# Altium schematic symbol library BMS_Master.SchLib: 35 symbols
Pins are listed as number, name and electrical type; pins without a type are passive.

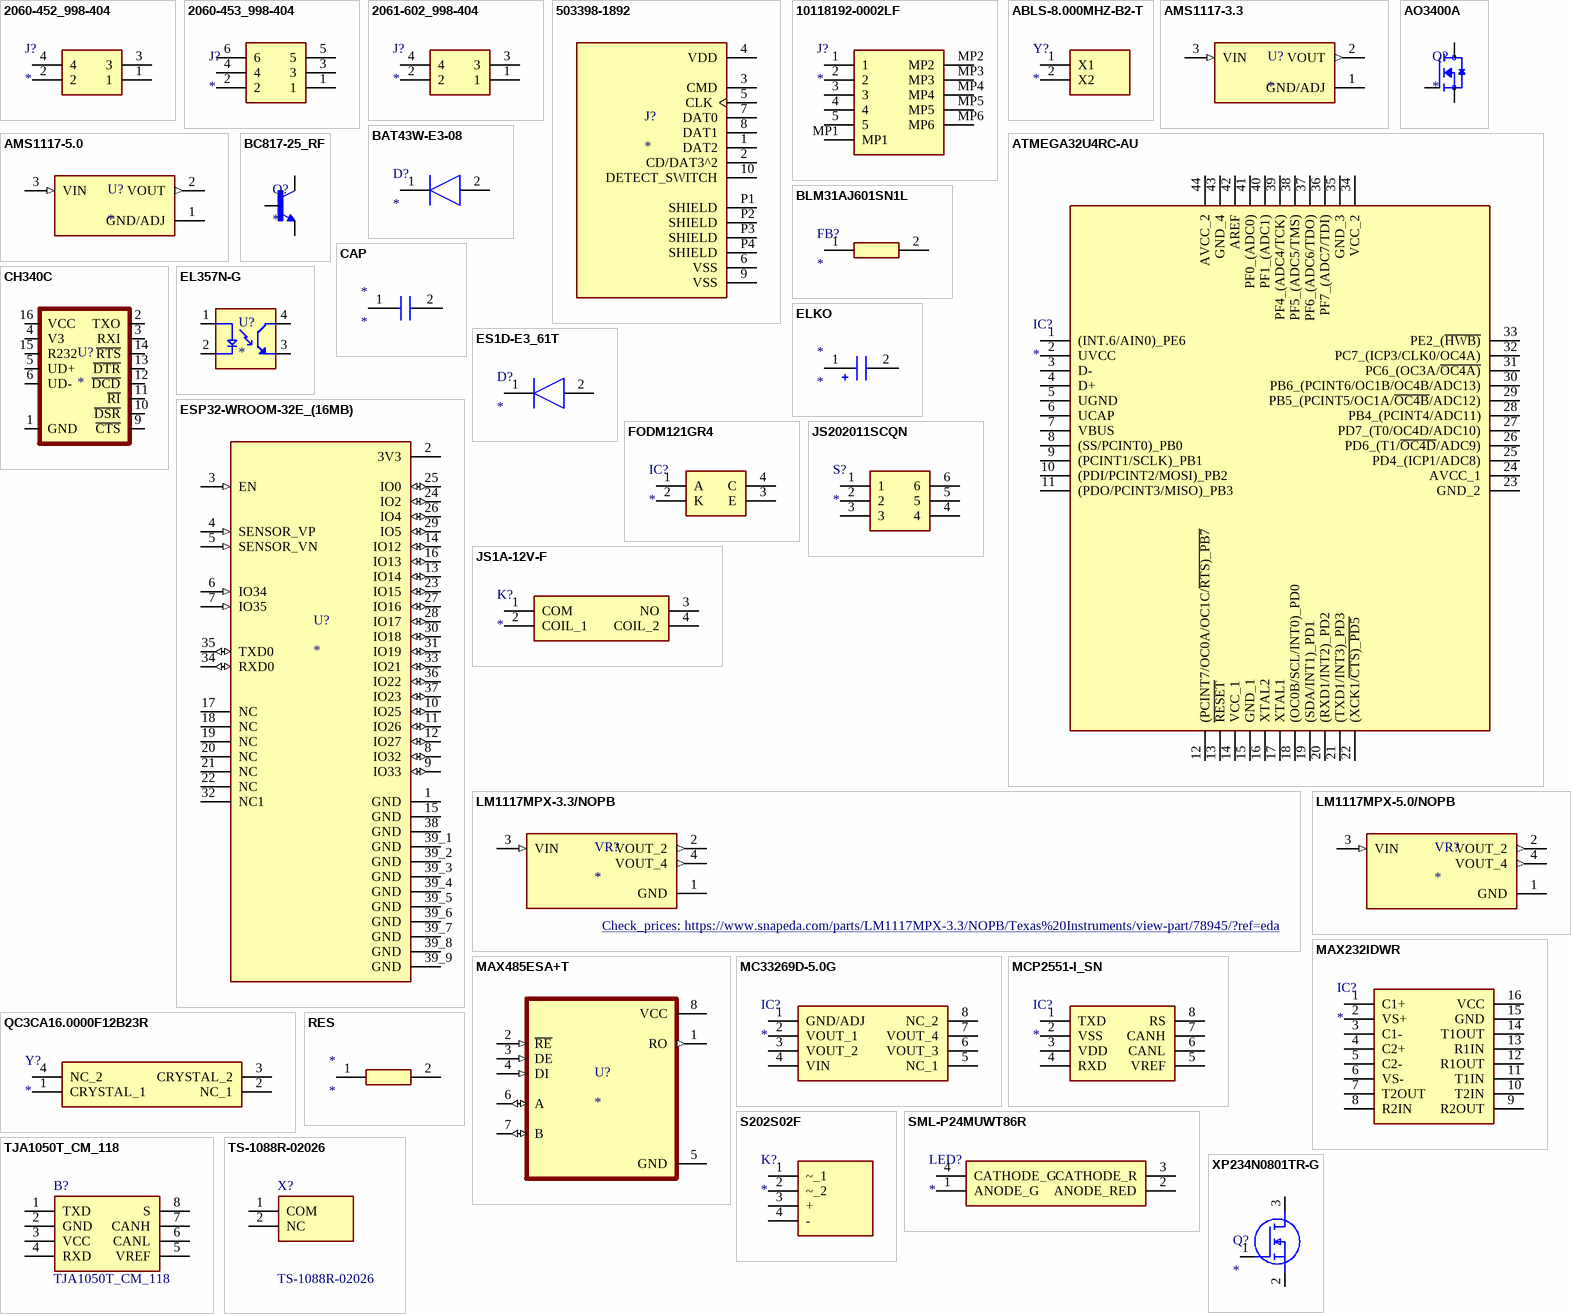
[diagram p0: symbols 2060-452_998-404 to XP234N0801TR-G]

## 2060-452_998-404
designator J?
Connector; Manufacturer_Name: Wago; Manufacturer_Part_Number: 2061-602/998-404; Arrow Part Number: 2060-452/998-404; Arrow Price/Stock: https://www.arrow.com/en/products/2060-452998-404/wago-kontakttechnik-gmbh?region=nac
footprint 2060-452998-404
pins: 1, 2, 3, 4

## 2060-453_998-404
designator J?
Connector; Manufacturer_Name: Wago; Manufacturer_Part_Number: 2060-452/998-404; Arrow Part Number: 2060-452/998-404; Arrow Price/Stock: https://www.arrow.com/en/products/2060-452998-404/wago-kontakttechnik-gmbh?region=nac
footprint 2060-453998-404
pins: 1, 2, 3, 4, 5, 6

## 2061-602_998-404
designator J?
Connector; Manufacturer_Name: Wago; Manufacturer_Part_Number: 2060-452/998-404; Arrow Part Number: 2060-452/998-404; Arrow Price/Stock: https://www.arrow.com/en/products/2060-452998-404/wago-kontakttechnik-gmbh?region=nac
footprint 2061-602998-404
pins: 1, 2, 3, 4

## 503398-1892
designator J?
9 (8 + 1) Position Card Connector Secure Digital - microSDâ„¢ Surface Mount, Right Angle Gold; MP: 5033981892; MF: Molex; Check_prices: https://www.snapeda.com/parts/5033981892/Molex/view-part/?ref=eda; Value: *; Availability: In Stock; Price: None; Package: None; SnapEDA_Link: https://www.snapeda.com/parts/5033981892/Molex/view-part/?ref=snap; Purchase-URL: https://pricing.snapeda.com/search/part/5033981892/?ref=eda
footprint MOLEX_503398-1892
pins: 1 DAT2, 2 CD/DAT3^2, 3 CMD, 4 VDD (power), 5 CLK, 6 VSS (power), 7 DAT0, 8 DAT1, 9 VSS (power), 10 DETECT_SWITCH, P1 SHIELD, P2 SHIELD, P3 SHIELD, P4 SHIELD

## 10118192-0002LF
designator J?
Connector; Manufacturer_Name: Amphenol; Manufacturer_Part_Number: 10118192-0002LF; Datasheet Link: https://componentsearchengine.com/Datasheets/1/10118192-0002LF.pdf; Height: 3.05mm; Mouser Part Number: 649-10118192-0002LF; Mouser Price/Stock: https://www.mouser.co.uk/ProductDetail/Amphenol-FCI/10118192-0002LF?qs=KVgMXE4aH4nIkuWlMxQzog%3D%3D; Arrow Part Number: 10118192-0002LF; Arrow Price/Stock: https://www.arrow.com/en/products/10118192-0002lf/amphenol-fci?region=nac
footprint 101181920002LF
pins: 1, 2, 3, 4, 5, MP1, MP2, MP3, MP4, MP5, MP6

## ABLS-8.000MHZ-B2-T
designator Y?
Crystal or Oscillator; Manufacturer_Name: ABRACON; Manufacturer_Part_Number: ABLS-8.000MHZ-B2-T; Datasheet Link: http://www.abracon.com/Resonators/abls.pdf; Height: 4.2mm; Mouser Part Number: 815-ABLS-8-B2; Mouser Price/Stock: https://www.mouser.co.uk/ProductDetail/ABRACON/ABLS-8000MHZ-B2-T?qs=H8AWquzS%2FlOPBpG0T30dWA%3D%3D; Arrow Part Number: ABLS-8.000MHZ-B2-T; Arrow Price/Stock: https://www.arrow.com/en/products/abls-8.000mhz-b2-t/abracon?region=nac
footprint ABLS8000MHZB2T
pins: 1 X1, 2 X2

## AMS1117-3.3
designator U?
Sot223/Pkg 1-Amp 3.3-Volt Low Drop Out Voltage Regulatator; MF: Advanced Monolithic Systems; MP: AMS1117-3.3; Package: SOT-223 Seeed Technology; Value: *; Check_prices: https://www.snapeda.com/parts/AMS1117-3.3/Advanced+Monolithic+Systems/view-part/?ref=eda; Price: None; Availability: Not in stock; SnapEDA_Link: https://www.snapeda.com/parts/AMS1117-3.3/Advanced+Monolithic+Systems/view-part/?ref=snap
footprint SOT229P700X180-4N
pins: 1 GND/ADJ (power), 2 VOUT (out), 3 VIN (in)

## AMS1117-5.0
designator U?
1A LOW DROPOUT VOLTAGE REGULATOR; MP: AMS1117-5.0; MF: ams; Package: SOT-223 Seeed Technology; SnapEDA_Link: https://www.snapeda.com/parts/AMS1117-5.0/ams/view-part/?ref=snap; Check_prices: https://www.snapeda.com/parts/AMS1117-5.0/ams/view-part/?ref=eda; Availability: Not in stock; Value: *; Price: None
footprint SOT229P700X180-4N
pins: 1 GND/ADJ (power), 2 VOUT (out), 3 VIN (in)

## AO3400A
designator Q?
Trans MOSFET N-CH 30V 5.7A 3-Pin SOT-23; MP: AO3400A; Package: None; Price: None; Availability: Unavailable; Value: *
footprint SOT95P280X125-3N
pins: 1 G, 2 S, 3 D

## ATMEGA32U4RC-AU
designator IC?
Integrated Circuit; Manufacturer_Name: Microchip; Manufacturer_Part_Number: ATMEGA32U4RC-AU; Datasheet Link: http://uk.rs-online.com/web/p/products/7380451; Height: 1.2mm; Mouser Part Number: 556-ATMEGA32U4RC-AU; Mouser Price/Stock: https://www.mouser.co.uk/ProductDetail/Microchip-Technology-Atmel/ATMEGA32U4RC-AU?qs=7AReRZHh%2FSt%252BRqfzkW8%2FkA%3D%3D; Arrow Part Number: ATMEGA32U4RC-AU; Arrow Price/Stock: https://www.arrow.com/en/products/atmega32u4rc-au/microchip-technology?region=nac
footprint QFP80P1200X1200X120-44N
pins: 1 (INT.6/AIN0)_PE6, 2 UVCC, 3 D-, 4 D+, 5 UGND, 6 UCAP, 7 VBUS, 8 (SS/PCINT0)_PB0, 9 (PCINT1/SCLK)_PB1, 10 (PDI/PCINT2/MOSI)_PB2, 11 (PDO/PCINT3/MISO)_PB3, 12 (PCINT7/OC0A/OC1C/~{RTS)_PB7}, 13 ~{RESET}, 14 VCC_1, 15 GND_1, 16 XTAL2, 17 XTAL1, 18 (OC0B/SCL/INT0)_PD0, 19 (SDA/INT1)_PD1, 20 (RXD1/INT2)_PD2, 21 (TXD1/INT3)_PD3, 22 (XCK1/~{CTS)_PD5}, 23 GND_2, 24 AVCC_1, 25 PD4_(ICP1/ADC8), 26 PD6_(T1/~{OC4D}/ADC9), 27 PD7_(T0/OC4D/ADC10), 28 PB4_(PCINT4/ADC11), 29 PB5_(PCINT5/OC1A/~{OC4B}/ADC12), 30 PB6_(PCINT6/OC1B/OC4B/ADC13), 31 PC6_(OC3A/~{OC4A)}, 32 PC7_(ICP3/CLK0/OC4A), 33 PE2_(~{HWB)}, 34 VCC_2, 35 GND_3, 36 PF7_(ADC7/TDI), 37 PF6_(ADC6/TDO), 38 PF5_(ADC5/TMS), 39 PF4_(ADC4/TCK), 40 PF1_(ADC1), 41 PF0_(ADC0), 42 AREF, 43 GND_4, 44 AVCC_2

## BAT43W-E3-08
designator D?
Diode; Manufacturer_Name: Vishay; Manufacturer_Part_Number: BAT43W-E3-08; Datasheet Link: https://www.arrow.com/en/products/bat43w-e3-08/vishay; Height: 1.35mm; Mouser Part Number: 78-BAT43W-E3-08; Mouser Price/Stock: https://www.mouser.co.uk/ProductDetail/Vishay-Semiconductors/BAT43W-E3-08?qs=KP8Io%2FXyE5RCw3lmmA3XwQ%3D%3D; Arrow Part Number: BAT43W-E3-08; Arrow Price/Stock: https://www.arrow.com/en/products/bat43w-e3-08/vishay?region=nac
footprint SOD3716X135N
pins: 1 K, 2 A

## BC817-25_RF
designator Q?
SOT-23, 50V, 0.5A, NPN Bipolar Transistor; MF: Taiwan Semiconductor; MP: BC817-25 RF; Package: SOT-23 Taiwan Semiconductor; Value: *; Availability: In Stock; Check_prices: https://www.snapeda.com/parts/BC817-25%20RF/Taiwan+Semiconductor/view-part/?ref=eda; SnapEDA_Link: https://www.snapeda.com/parts/BC817-25%20RF/Taiwan+Semiconductor/view-part/?ref=snap; Price: None; Purchase-URL: https://pricing.snapeda.com/search/part/BC817-25 RF/?ref=eda
footprint SOT95P237X112-3N
pins: 1 B, 2 E, 3 C

## BLM31AJ601SN1L
designator FB?
Ferrite Bead; Manufacturer_Name: Murata Electronics; Manufacturer_Part_Number: BLM31AJ601SN1L; Datasheet Link: https://www.mouser.com/datasheet/2/281/c31e-794748.pdf; Height: 1.3mm; Mouser Part Number: 81-BLM31A601S; Mouser Price/Stock: https://www.mouser.co.uk/ProductDetail/Murata-Electronics/BLM31AJ601SN1L?qs=eh6oC%2F9l24qWxAxwNnqXlg%3D%3D; Arrow Part Number: BLM31AJ601SN1L; Arrow Price/Stock: https://www.arrow.com/en/products/blm31aj601sn1l/murata-manufacturing
footprint BEADC3216X130N
pins: 1, 2

## CAP
designator *
footprint CAPC1608X90N
pins: 1, 2

## CH340C
designator U?
Replacement for Brother P-Touch; MP: CH340C; MF: Olimex; SnapEDA_Link: https://www.snapeda.com/parts/CH340C/Olimex/view-part/?ref=snap; Availability: Not in stock; Price: None; Value: *; Check_prices: https://www.snapeda.com/parts/CH340C/Olimex/view-part/?ref=eda; Package: None
footprint SO016
pins: 1 GND (io), 2 TXO (io), 3 RXI (io), 4 V3 (io), 5 UD+ (io), 6 UD- (io), 9 ~{CTS} (io), 10 ~{DSR} (io), 11 ~{RI} (io), 12 ~{DCD} (io), 13 ~{DTR} (io), 14 ~{RTS} (io), 15 R232 (io), 16 VCC (io)

## EL357N-G
designator U?
Optoisolator Transistor Output 3750Vrms 1 Channel 4-SOP (2.54mm); MP: EL357N-G; MF: Everlight Electronics; Price: None; SnapEDA_Link: https://www.snapeda.com/parts/EL357N-G/Everlight+Electronics+Co+Ltd/view-part/?ref=snap; Package: SOP-4 Everlight; Check_prices: https://www.snapeda.com/parts/EL357N-G/Everlight+Electronics+Co+Ltd/view-part/?ref=eda; Value: *; Availability: In Stock; Purchase-URL: https://pricing.snapeda.com/search/part/EL357N-G/?ref=eda
footprint OPTO_EL357N-G
pins: 1 A, 2 C, 3 ET, 4 CT

## ELKO
designator *
footprint CAPAE530X550N
pins: 1 +, 2 -

## ES1D-E3_61T
designator D?
Diode; Manufacturer_Name: Vishay; Manufacturer_Part_Number: ES1D-E3/61T; Datasheet Link: https://componentsearchengine.com/Datasheets/2/ES1D-E3_61T.pdf; Height: 2.29mm; Mouser Part Number: 625-ES1D-E3; Mouser Price/Stock: https://www.mouser.co.uk/ProductDetail/Vishay-General-Semiconductor/ES1D-E3-61T?qs=rfh7uIuiIO0XwaKoN5aNdQ%3D%3D; Arrow Part Number: ES1D-E3/61T; Arrow Price/Stock: https://www.arrow.com/en/products/es1d-e361t/vishay
footprint DIOM5127X229N
pins: 1 K, 2 A

## ESP32-WROOM-32E_(16MB)
designator U?
Bluetooth, WiFi 802.11b/g/n, Bluetooth v4.2 +EDR, Class 1, 2 and 3 Transceiver Module 2.4GHz ~ 2.5GHz Integrated, Trace Surface Mount; MP: ESP32-WROOM-32E (16MB); MF: Espressif Systems; Price: None; Availability: Not in stock; Package: None; Value: *; SnapEDA_Link: https://www.snapeda.com/parts/ESP32-WROOM-32E%20(16MB)/Espressif+Systems/view-part/?ref=snap; Check_prices: https://www.snapeda.com/parts/ESP32-WROOM-32E%20(16MB)/Espressif+Systems/view-part/?ref=eda
footprint XCVR_ESP32-WROOM-32E_(16MB) - duplicate
pins: 1 GND (power), 2 3V3 (power), 3 EN (in), 4 SENSOR_VP (in), 5 SENSOR_VN (in), 6 IO34 (in), 7 IO35 (in), 8 IO32 (io), 9 IO33 (io), 10 IO25 (io), 11 IO26 (io), 12 IO27 (io), 13 IO14 (io), 14 IO12 (io), 15 GND (power), 16 IO13 (io), 17 NC, 18 NC, 19 NC, 20 NC, 21 NC, 22 NC, 23 IO15 (io), 24 IO2 (io), 25 IO0 (io), 26 IO4 (io), 27 IO16 (io), 28 IO17 (io), 29 IO5 (io), 30 IO18 (io), 31 IO19 (io), 32 NC1, 33 IO21 (io), 34 RXD0 (io), 35 TXD0 (io), 36 IO22 (io), 37 IO23 (io), 38 GND (power), 39_1 GND (power), 39_2 GND (power), 39_3 GND (power), 39_4 GND (power), 39_5 GND (power), 39_6 GND (power), 39_7 GND (power), 39_8 GND (power), 39_9 GND (power)

## FODM121GR4
designator IC?
Integrated Circuit; Manufacturer_Name: ON Semiconductor; Manufacturer_Part_Number: FODM121GR4; Datasheet Link: https://www.onsemi.com/pub/Collateral/FODM2705-D.pdf; Height: 2.4mm; Mouser Part Number: 863-FODM121GR4; Mouser Price/Stock: https://www.mouser.co.uk/ProductDetail/onsemi/FODM121GR4?qs=byeeYqUIh0Okw76KHw6rZA%3D%3D
footprint SOP254P675X240-4N
pins: 1 A, 2 K, 3 E, 4 C

## JS1A-12V-F
designator K?
Relay or Contactor; Manufacturer_Name: Panasonic; Manufacturer_Part_Number: JS1A-12V-F; Datasheet Link: https://componentsearchengine.com/Datasheets/2/JS1A-12V-F.pdf; Height: 16.4mm; Mouser Part Number: 769-JS1A-12V-F; Mouser Price/Stock: https://www.mouser.co.uk/ProductDetail/Panasonic/JS1A-12V-F?qs=sEN%2FkO1EG6bHk8GQE7PEaQ%3D%3D; Arrow Part Number: JS1A-12V-F; Arrow Price/Stock: https://www.arrow.com/en/products/js1a-12v-f/panasonic
footprint JS1A12VF
pins: 1 COM, 2 COIL_1, 3 NO, 4 COIL_2

## JS202011SCQN
designator S?
Switch; Manufacturer_Name: C & K COMPONENTS; Manufacturer_Part_Number: JS202011SCQN; Datasheet Link: http://www.ckswitches.com/media/1422/js.pdf; Height: 5.5mm; Mouser Part Number: 611-JS202011SCQN; Mouser Price/Stock: https://www.mouser.co.uk/ProductDetail/CK/JS202011SCQN?qs=LgMIjt8LuD95JYWxZ7NvZA%3D%3D; Arrow Part Number: JS202011SCQN; Arrow Price/Stock: https://www.arrow.com/en/products/js202011scqn/ck?region=nac
footprint JS202011SCQN
pins: 1, 2, 3, 4, 5, 6

## LM1117MPX-3.3/NOPB
designator VR?
800-mA 15-V linear voltage regulator 4-SOT-223 0 to 125; MF: Texas Instruments; MP: LM1117MPX-3.3/NOPB; Texas_Instruments-Purchase-URL: https://snapeda.com/shop?store=Texas+Instruments&id=78945; SnapEDA_Link: https://www.snapeda.com/parts/LM1117MPX-3.3/NOPB/Texas%20Instruments/view-part/78945/?ref=snap; Value: *; DigiKey-Purchase-URL: https://snapeda.com/shop?store=DigiKey&id=78945; Package: SOT-223-4 Texas Instruments; Digi-Key_Part_Number: LM1117MPX-3.3/NOPBCT-ND; Mouser-Purchase-URL: https://snapeda.com/shop?store=Mouser&id=78945; Check_prices: https://www.snapeda.com/parts/LM1117MPX-3.3/NOPB/Texas%20Instruments/view-part/78945/?ref=eda
footprint VREG_LM1117MPX-3.3/NOPB
pins: 1 GND (power), 2 VOUT_2 (out), 3 VIN (in), 4 VOUT_4 (out)

## LM1117MPX-5.0/NOPB
designator VR?
800-mA 15-V linear voltage regulator 4-SOT-223 0 to 125; MP: LM1117MPX-5.0/NOPB; Package: None; Availability: Unavailable; Price: None; Value: *
footprint VREG_LM1117MPX-5.0/NOPB
pins: 1 GND (power), 2 VOUT_2 (out), 3 VIN (in), 4 VOUT_4 (out)

## MAX232IDWR
designator IC?
Integrated Circuit; Manufacturer_Name: Texas Instruments; Manufacturer_Part_Number: MAX232IDWR; Datasheet Link: http://www.ti.com/lit/gpn/max232?HQS=ti-null-null-sf-df-pf-sep-wwe&DCM=yes; Height: 2.65mm; Mouser Part Number: 595-MAX232IDWR; Mouser Price/Stock: https://www.mouser.co.uk/ProductDetail/Texas-Instruments/MAX232IDWR?qs=NLW4NjXEBS5p6v4OAKxw4g%3D%3D; Arrow Part Number: MAX232IDWR; Arrow Price/Stock: https://www.arrow.com/en/products/max232idwr/texas-instruments?region=nac
footprint SOIC127P1030X265-16N
pins: 1 C1+, 2 VS+, 3 C1-, 4 C2+, 5 C2-, 6 VS-, 7 T2OUT, 8 R2IN, 9 R2OUT, 10 T2IN, 11 T1IN, 12 R1OUT, 13 R1IN, 14 T1OUT, 15 GND, 16 VCC

## MAX485ESA+T
designator U?
1/1 Transceiver Half RS422, RS485 8-SOIC; MP: MAX485ESA; MF: Maxim Integrated; SnapEDA_Link: https://www.snapeda.com/parts/MAX485ESA/Maxim+Integrated/view-part/?ref=snap; Purchase-URL: https://pricing.snapeda.com/search/part/MAX485ESA/?ref=eda; Value: *; Package: SOIC-8 Maxim; Price: None; Availability: In Stock; Check_prices: https://www.snapeda.com/parts/MAX485ESA/Maxim+Integrated/view-part/?ref=eda
footprint SOIC127P600X175-8N
pins: 1 RO (out), 2 ~{RE} (in), 3 DE (in), 4 DI (in), 5 GND (power), 6 A (io), 7 B (io), 8 VCC (power)

## MC33269D-5.0G
designator IC?
Integrated Circuit; Manufacturer_Name: ON Semiconductor; Manufacturer_Part_Number: MC33269D-5.0G; Datasheet Link: http://www.onsemi.com/pub/Collateral/MC33269-D.PDF; Height: 1.75mm; Mouser Part Number: 863-MC33269D-5.0G; Mouser Price/Stock: https://www.mouser.co.uk/ProductDetail/onsemi/MC33269D-50G?qs=dFKnUM%2FquJZ0YuZ%252B66PKCA%3D%3D; Arrow Part Number: MC33269D-5.0G; Arrow Price/Stock: https://www.arrow.com/en/products/mc33269d-5.0g/on-semiconductor?region=nac
footprint SOIC127P600X175-8N
pins: 1 GND/ADJ, 2 VOUT_1, 3 VOUT_2, 4 VIN, 5 NC_1, 6 VOUT_3, 7 VOUT_4, 8 NC_2

## MCP2551-I_SN
designator IC?
Integrated Circuit; Manufacturer_Name: Microchip; Manufacturer_Part_Number: MCP2551-I/SN; Datasheet Link: https://datasheet.datasheetarchive.com/originals/distributors/Datasheets-34/DSA-674994.pdf; Height: 1.75mm; Mouser Part Number: 579-MCP2551-I/SN; Mouser Price/Stock: https://www.mouser.co.uk/ProductDetail/Microchip-Technology/MCP2551-I-SN?qs=9y3LFqDLL8L5zFfqqxdOHg%3D%3D; Arrow Part Number: MCP2551-I/SN; Arrow Price/Stock: https://www.arrow.com/en/products/mcp2551-isn/microchip-technology?region=nac
footprint SOIC127P600X175-8N
pins: 1 TXD, 2 VSS, 3 VDD, 4 RXD, 5 VREF, 6 CANL, 7 CANH, 8 RS

## QC3CA16.0000F12B23R
designator Y?
Crystal or Oscillator; Manufacturer_Name: Qantek; Manufacturer_Part_Number: QC3CA16.0000F12B23R; Height: 1.1mm
footprint QC3CA160000F12B23R
pins: 1 CRYSTAL_1, 2 NC_1, 3 CRYSTAL_2, 4 NC_2

## RES
designator *
footprint RESC1608X55N
pins: 1, 2

## S202S02F
designator K?
Relay or Contactor; Manufacturer_Name: Sharp Microelectronics; Manufacturer_Part_Number: S202S02F; Datasheet Link: https://componentsearchengine.com/Datasheets/1/S202S02F.pdf; Height: 5mm; Mouser Part Number: N/A; Mouser Price/Stock: https://www.mouser.co.uk/ProductDetail/Sharp-Microelectronics/S202S02F?qs=ijfXDZrNBl2UPSyCAmWZ0A%3D%3D
footprint S202S12
pins: 1 ~_1, 2 ~_2, 3 +, 4 -

## SML-P24MUWT86R
designator LED?
LED; Manufacturer_Name: ROHM Semiconductor; Manufacturer_Part_Number: SML-P24MUWT86R; Datasheet Link: https://datasheet.datasheetarchive.com/originals/distributors/DKDS-18/357144.pdf; Height: 0.25mm; Mouser Part Number: 755-SML-P24MUWT86R; Mouser Price/Stock: https://www.mouser.co.uk/ProductDetail/ROHM-Semiconductor/SML-P24MUWT86R?qs=SP2aZMzhwxgr8eZ6SbTI9w%3D%3D
footprint SMLP24MUWT86R
pins: 1 ANODE_G, 2 ANODE_RED, 3 CATHODE_R, 4 CATHODE_G

## TJA1050T_CM_118
designator B?
NXP - TJA1050T/CM,118 - CAN TRANSCEIVER, 1TX/RX, SOIC-8; Geometry.Height: 1.75mm; Manufacturer_Name: NXP; Manufacturer_Part_Number: TJA1050T/CM,118; Mouser Part Number: 771-TJA1050T/CM118; Mouser Price/Stock: https://www.mouser.co.uk/ProductDetail/NXP-Semiconductors/TJA1050T-CM118?qs=5XOdhvmYM0NFFspw0VP5sA%3D%3D; Arrow Part Number: TJA1050T/CM,118; Arrow Price/Stock: https://www.arrow.com/en/products/tja1050tcm118/nxp-semiconductors?region=nac; Datasheet Link: http://www.nxp.com/docs/en/data-sheet/TJA1050.pdf
footprint SOIC127P600X175-8N
pins: 1 TXD, 2 GND, 3 VCC, 4 RXD, 5 VREF, 6 CANL, 7 CANH, 8 S

## TS-1088R-02026
designator X?
SMD,3x4x2.0mm Tactile Switches; Manufacturer_Name: XUNPU; Geometry.Height: 2.2mm; Manufacturer_Part_Number: TS-1088R-02026; Mouser Part Number: *; Mouser Price/Stock: *; Arrow Part Number: *; Arrow Price/Stock: *; Datasheet Link: https://datasheet.lcsc.com/szlcsc/1912111437_XUNPU-TS-1088R-02026_C455280.pdf
footprint TS1088R02026
pins: 1 COM, 2 NC

## XP234N0801TR-G
designator Q?
MOSFET (N-Channel); Manufacturer_Name: Torex; Manufacturer_Part_Number: XP234N0801TR-G; Datasheet Link: https://4donline.ihs.com/images/VipMasterIC/IC/TOSL/TOSL-S-A0008892481/TOSL-S-A0008892481-1.pdf?hkey=CECEF36DEECDED6468708AAF2E19C0C6; Height: 1.15mm; Mouser Part Number: 865-XP234N0801TR-G; Mouser Price/Stock: https://www.mouser.co.uk/ProductDetail/Torex-Semiconductor/XP234N0801TR-G?qs=BJlw7L4Cy7%252BWe%2FbHvnXcKQ%3D%3D
footprint SOT95P240X115-3N
pins: 1 G, 2 S, 3 D